# EAGLE library part LTC5597 (library Analog Devices)
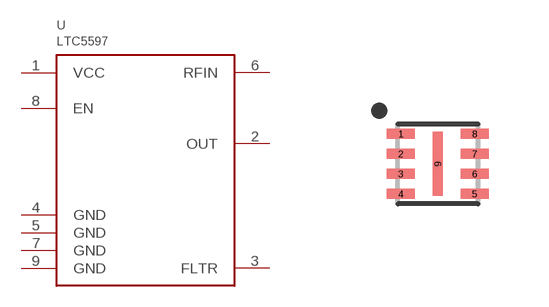
[diagram p38: symbol with the pads of DFN8_2X2; footprint DFN8_2X2]

Designator prefix U

## LTC5597  [DFN8_2X2]
1  VCC
2  OUT
3  FLTR
4  GND
5  GND
6  RFIN
7  GND
8  EN
9  GND

## Footprint DFN8_2X2 (pad centres in mm)
smd 0.7 x 0.25: 1 -0.925,0.75; 2 -0.925,0.25; 3 -0.925,-0.25; 4 -0.925,-0.75; 5 0.925,-0.75; 6 0.925,-0.25; 7 0.925,0.25; 8 0.925,0.75
smd 0.25 x 1.6: 9 0,0